# Altium integrated library Altium_WE-PD2A+(rev22c).IntLib: 94 symbols (part 2 of 2)
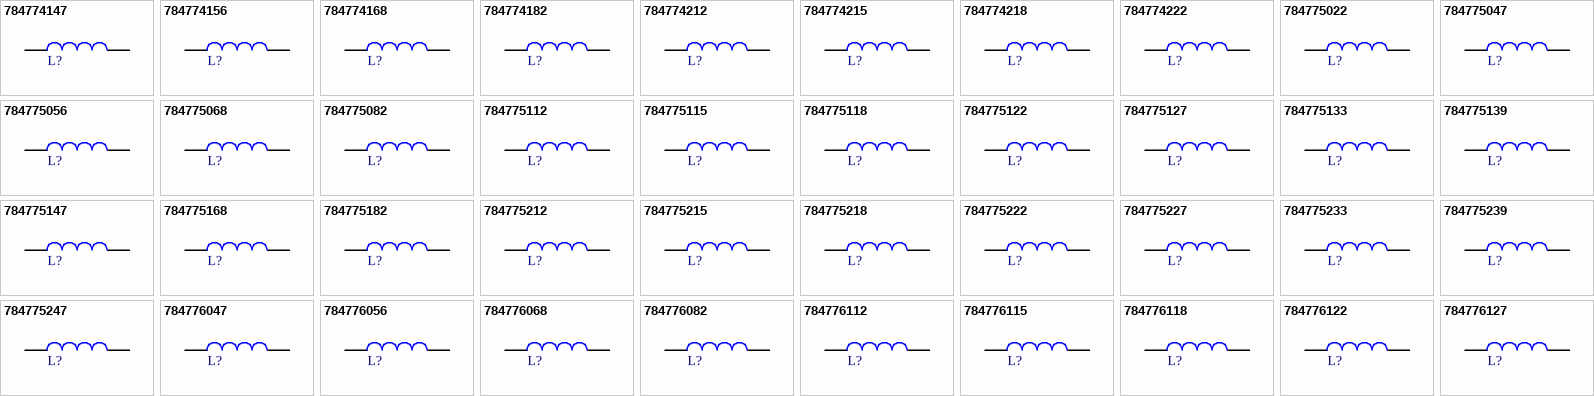
[diagram p3: symbols 784774147 to 784776127]

## 784775115
designator L?, comment 15µH  (value not drawn)
WE-PD2A SMT Power Inductor, size 7850, 15µH, 1.93A, 0.09Ω; Manufacturer Part Number: 784775115; Manufacturer: Wurth Elektronik; Case/Size Code: 7850; DC Resistance: 0.044Ω; Rated Voltage: 80VDC; Saturation Current: 2.2A; Self Resonant Frequency: 18MHz; Category: Single Coil Power Inductors; Match Code: WE-PD2A; ComponentLink1Description: Website Link; ComponentLink1URL: https://www.we-online.com/redexpert/article/784775115?ad; ComponentLink2Description: Datasheet Link; ComponentLink2URL: https://www.we-online.com/redexpert/spec/784775115?ad; Mount: Surface Mount; Operating Temperature Max: 125°C; Operating Temperature Min: -40°C; Packaging: Tape and Reel; Length: 7.8mm; Width: 7mm; Height: 5mm; Automotive: Yes; DC Resistance Max: 0.09Ω; Inductance: 15µH; Rated Current: 1.93A
footprint WE-PD2A_7850
simulation model 7850_784775115_15u
pins: 1, 2

## 784775118
designator L?, comment 18µH  (value not drawn)
WE-PD2A SMT Power Inductor, size 7850, 18µH, 1.89A, 0.1Ω; Manufacturer Part Number: 784775118; Manufacturer: Wurth Elektronik; Case/Size Code: 7850; DC Resistance: 0.053Ω; Rated Voltage: 80VDC; Saturation Current: 2.14A; Self Resonant Frequency: 17MHz; Category: Single Coil Power Inductors; Match Code: WE-PD2A; ComponentLink1Description: Website Link; ComponentLink1URL: https://www.we-online.com/redexpert/article/784775118?ad; ComponentLink2Description: Datasheet Link; ComponentLink2URL: https://www.we-online.com/redexpert/spec/784775118?ad; Mount: Surface Mount; Operating Temperature Max: 125°C; Operating Temperature Min: -40°C; Packaging: Tape and Reel; Length: 7.8mm; Width: 7mm; Height: 5mm; Automotive: Yes; DC Resistance Max: 0.1Ω; Inductance: 18µH; Rated Current: 1.89A
footprint WE-PD2A_7850
simulation model 7850_784775118_18u
pins: 1, 2

## 784775122
designator L?, comment 22µH  (value not drawn)
WE-PD2A SMT Power Inductor, size 7850, 22µH, 1.76A, 0.11Ω; Manufacturer Part Number: 784775122; Manufacturer: Wurth Elektronik; Case/Size Code: 7850; DC Resistance: 0.065Ω; Rated Voltage: 80VDC; Saturation Current: 1.81A; Self Resonant Frequency: 15MHz; Category: Single Coil Power Inductors; Match Code: WE-PD2A; ComponentLink1Description: Website Link; ComponentLink1URL: https://www.we-online.com/redexpert/article/784775122?ad; ComponentLink2Description: Datasheet Link; ComponentLink2URL: https://www.we-online.com/redexpert/spec/784775122?ad; Mount: Surface Mount; Operating Temperature Max: 125°C; Operating Temperature Min: -40°C; Packaging: Tape and Reel; Length: 7.8mm; Width: 7mm; Height: 5mm; Automotive: Yes; DC Resistance Max: 0.11Ω; Inductance: 22µH; Rated Current: 1.76A
footprint WE-PD2A_7850
simulation model 7850_784775122_22u
pins: 1, 2

## 784775127
designator L?, comment 27µH  (value not drawn)
WE-PD2A SMT Power Inductor, size 7850, 27µH, 1.48A, 0.12Ω; Manufacturer Part Number: 784775127; Manufacturer: Wurth Elektronik; Case/Size Code: 7850; DC Resistance: 0.074Ω; Rated Voltage: 80VDC; Saturation Current: 1.62A; Self Resonant Frequency: 14MHz; Category: Single Coil Power Inductors; Match Code: WE-PD2A; ComponentLink1Description: Website Link; ComponentLink1URL: https://www.we-online.com/redexpert/article/784775127?ad; ComponentLink2Description: Datasheet Link; ComponentLink2URL: https://www.we-online.com/redexpert/spec/784775127?ad; Mount: Surface Mount; Operating Temperature Max: 125°C; Operating Temperature Min: -40°C; Packaging: Tape and Reel; Length: 7.8mm; Width: 7mm; Height: 5mm; Automotive: Yes; DC Resistance Max: 0.12Ω; Inductance: 27µH; Rated Current: 1.48A
footprint WE-PD2A_7850
simulation model 7850_784775127_27u
pins: 1, 2

## 784775133
designator L?, comment 33µH  (value not drawn)
WE-PD2A SMT Power Inductor, size 7850, 33µH, 1.35A, 0.13Ω; Manufacturer Part Number: 784775133; Manufacturer: Wurth Elektronik; Case/Size Code: 7850; DC Resistance: 0.089Ω; Rated Voltage: 80VDC; Saturation Current: 1.47A; Self Resonant Frequency: 13MHz; Category: Single Coil Power Inductors; Match Code: WE-PD2A; ComponentLink1Description: Website Link; ComponentLink1URL: https://www.we-online.com/redexpert/article/784775133?ad; ComponentLink2Description: Datasheet Link; ComponentLink2URL: https://www.we-online.com/redexpert/spec/784775133?ad; Mount: Surface Mount; Operating Temperature Max: 125°C; Operating Temperature Min: -40°C; Packaging: Tape and Reel; Length: 7.8mm; Width: 7mm; Height: 5mm; Automotive: Yes; DC Resistance Max: 0.13Ω; Inductance: 33µH; Rated Current: 1.35A
footprint WE-PD2A_7850
simulation model 7850_784775133_33u
pins: 1, 2

## 784775139
designator L?, comment 39µH  (value not drawn)
WE-PD2A SMT Power Inductor, size 7850, 39µH, 1.25A, 0.16Ω; Manufacturer Part Number: 784775139; Manufacturer: Wurth Elektronik; Case/Size Code: 7850; DC Resistance: 0.116Ω; Rated Voltage: 80VDC; Saturation Current: 1.33A; Self Resonant Frequency: 12MHz; Category: Single Coil Power Inductors; Match Code: WE-PD2A; ComponentLink1Description: Website Link; ComponentLink1URL: https://www.we-online.com/redexpert/article/784775139?ad; ComponentLink2Description: Datasheet Link; ComponentLink2URL: https://www.we-online.com/redexpert/spec/784775139?ad; Mount: Surface Mount; Operating Temperature Max: 125°C; Operating Temperature Min: -40°C; Packaging: Tape and Reel; Length: 7.8mm; Width: 7mm; Height: 5mm; Automotive: Yes; DC Resistance Max: 0.16Ω; Inductance: 39µH; Rated Current: 1.25A
footprint WE-PD2A_7850
simulation model 7850_784775139_39u
pins: 1, 2

## 784775147
designator L?, comment 47µH  (value not drawn)
WE-PD2A SMT Power Inductor, size 7850, 47µH, 1.17A, 0.18Ω; Manufacturer Part Number: 784775147; Manufacturer: Wurth Elektronik; Case/Size Code: 7850; DC Resistance: 0.134Ω; Rated Voltage: 80VDC; Saturation Current: 1.24A; Self Resonant Frequency: 10MHz; Category: Single Coil Power Inductors; Match Code: WE-PD2A; ComponentLink1Description: Website Link; ComponentLink1URL: https://www.we-online.com/redexpert/article/784775147?ad; ComponentLink2Description: Datasheet Link; ComponentLink2URL: https://www.we-online.com/redexpert/spec/784775147?ad; Mount: Surface Mount; Operating Temperature Max: 125°C; Operating Temperature Min: -40°C; Packaging: Tape and Reel; Length: 7.8mm; Width: 7mm; Height: 5mm; Automotive: Yes; DC Resistance Max: 0.18Ω; Inductance: 47µH; Rated Current: 1.17A
footprint WE-PD2A_7850
simulation model 7850_784775147_47u
pins: 1, 2

## 784775168
designator L?, comment 68µH  (value not drawn)
WE-PD2A SMT Power Inductor, size 7850, 68µH, 0.99A, 0.28Ω; Manufacturer Part Number: 784775168; Manufacturer: Wurth Elektronik; Case/Size Code: 7850; DC Resistance: 0.218Ω; Rated Voltage: 80VDC; Saturation Current: 1.05A; Self Resonant Frequency: 8MHz; Category: Single Coil Power Inductors; Match Code: WE-PD2A; ComponentLink1Description: Website Link; ComponentLink1URL: https://www.we-online.com/redexpert/article/784775168?ad; ComponentLink2Description: Datasheet Link; ComponentLink2URL: https://www.we-online.com/redexpert/spec/784775168?ad; Mount: Surface Mount; Operating Temperature Max: 125°C; Operating Temperature Min: -40°C; Packaging: Tape and Reel; Length: 7.8mm; Width: 7mm; Height: 5mm; Automotive: Yes; DC Resistance Max: 0.28Ω; Inductance: 68µH; Rated Current: 0.99A
footprint WE-PD2A_7850
simulation model 7850_784775168_68u
pins: 1, 2

## 784775182
designator L?, comment 82µH  (value not drawn)
WE-PD2A SMT Power Inductor, size 7850, 82µH, 0.9A, 0.37Ω; Manufacturer Part Number: 784775182; Manufacturer: Wurth Elektronik; Case/Size Code: 7850; DC Resistance: 0.248Ω; Rated Voltage: 80VDC; Saturation Current: 0.95A; Self Resonant Frequency: 7MHz; Category: Single Coil Power Inductors; Match Code: WE-PD2A; ComponentLink1Description: Website Link; ComponentLink1URL: https://www.we-online.com/redexpert/article/784775182?ad; ComponentLink2Description: Datasheet Link; ComponentLink2URL: https://www.we-online.com/redexpert/spec/784775182?ad; Mount: Surface Mount; Operating Temperature Max: 125°C; Operating Temperature Min: -40°C; Packaging: Tape and Reel; Length: 7.8mm; Width: 7mm; Height: 5mm; Automotive: Yes; DC Resistance Max: 0.37Ω; Inductance: 82µH; Rated Current: 0.9A
footprint WE-PD2A_7850
simulation model 7850_784775182_82u
pins: 1, 2

## 784775212
designator L?, comment 120µH  (value not drawn)
WE-PD2A SMT Power Inductor, size 7850, 120µH, 0.67A, 0.47Ω; Manufacturer Part Number: 784775212; Manufacturer: Wurth Elektronik; Case/Size Code: 7850; DC Resistance: 0.34Ω; Rated Voltage: 80VDC; Saturation Current: 0.81A; Self Resonant Frequency: 6MHz; Category: Single Coil Power Inductors; Match Code: WE-PD2A; ComponentLink1Description: Website Link; ComponentLink1URL: https://www.we-online.com/redexpert/article/784775212?ad; ComponentLink2Description: Datasheet Link; ComponentLink2URL: https://www.we-online.com/redexpert/spec/784775212?ad; Mount: Surface Mount; Operating Temperature Max: 125°C; Operating Temperature Min: -40°C; Packaging: Tape and Reel; Length: 7.8mm; Width: 7mm; Height: 5mm; Automotive: Yes; DC Resistance Max: 0.47Ω; Inductance: 120µH; Rated Current: 0.67A
footprint WE-PD2A_7850
simulation model 7850_784775212_120u
pins: 1, 2

## 784775215
designator L?, comment 150µH  (value not drawn)
WE-PD2A SMT Power Inductor, size 7850, 150µH, 0.6A, 0.64Ω; Manufacturer Part Number: 784775215; Manufacturer: Wurth Elektronik; Case/Size Code: 7850; DC Resistance: 0.467Ω; Rated Voltage: 80VDC; Saturation Current: 0.71A; Self Resonant Frequency: 6MHz; Category: Single Coil Power Inductors; Match Code: WE-PD2A; ComponentLink1Description: Website Link; ComponentLink1URL: https://www.we-online.com/redexpert/article/784775215?ad; ComponentLink2Description: Datasheet Link; ComponentLink2URL: https://www.we-online.com/redexpert/spec/784775215?ad; Mount: Surface Mount; Operating Temperature Max: 125°C; Operating Temperature Min: -40°C; Packaging: Tape and Reel; Length: 7.8mm; Width: 7mm; Height: 5mm; Automotive: Yes; DC Resistance Max: 0.64Ω; Inductance: 150µH; Rated Current: 0.6A
footprint WE-PD2A_7850
simulation model 7850_784775215_150u
pins: 1, 2

## 784775218
designator L?, comment 180µH  (value not drawn)
WE-PD2A SMT Power Inductor, size 7850, 180µH, 0.55A, 0.71Ω; Manufacturer Part Number: 784775218; Manufacturer: Wurth Elektronik; Case/Size Code: 7850; DC Resistance: 0.574Ω; Rated Voltage: 80VDC; Saturation Current: 0.57A; Self Resonant Frequency: 5MHz; Category: Single Coil Power Inductors; Match Code: WE-PD2A; ComponentLink1Description: Website Link; ComponentLink1URL: https://www.we-online.com/redexpert/article/784775218?ad; ComponentLink2Description: Datasheet Link; ComponentLink2URL: https://www.we-online.com/redexpert/spec/784775218?ad; Mount: Surface Mount; Operating Temperature Max: 125°C; Operating Temperature Min: -40°C; Packaging: Tape and Reel; Length: 7.8mm; Width: 7mm; Height: 5mm; Automotive: Yes; DC Resistance Max: 0.71Ω; Inductance: 180µH; Rated Current: 0.55A
footprint WE-PD2A_7850
simulation model 7850_784775218_180u
pins: 1, 2

## 784775222
designator L?, comment 220µH  (value not drawn)
WE-PD2A SMT Power Inductor, size 7850, 220µH, 0.51A, 0.96Ω; Manufacturer Part Number: 784775222; Manufacturer: Wurth Elektronik; Case/Size Code: 7850; DC Resistance: 0.614Ω; Rated Voltage: 80VDC; Saturation Current: 0.56A; Self Resonant Frequency: 5MHz; Category: Single Coil Power Inductors; Match Code: WE-PD2A; ComponentLink1Description: Website Link; ComponentLink1URL: https://www.we-online.com/redexpert/article/784775222?ad; ComponentLink2Description: Datasheet Link; ComponentLink2URL: https://www.we-online.com/redexpert/spec/784775222?ad; Mount: Surface Mount; Operating Temperature Max: 125°C; Operating Temperature Min: -40°C; Packaging: Tape and Reel; Length: 7.8mm; Width: 7mm; Height: 5mm; Automotive: Yes; DC Resistance Max: 0.96Ω; Inductance: 220µH; Rated Current: 0.51A
footprint WE-PD2A_7850
simulation model 7850_784775222_220u
pins: 1, 2

## 784775227
designator L?, comment 270µH  (value not drawn)
WE-PD2A SMT Power Inductor, size 7850, 270µH, 0.47A, 1.11Ω; Manufacturer Part Number: 784775227; Manufacturer: Wurth Elektronik; Case/Size Code: 7850; DC Resistance: 0.699Ω; Rated Voltage: 80VDC; Saturation Current: 0.51A; Self Resonant Frequency: 4MHz; Category: Single Coil Power Inductors; Match Code: WE-PD2A; ComponentLink1Description: Website Link; ComponentLink1URL: https://www.we-online.com/redexpert/article/784775227?ad; ComponentLink2Description: Datasheet Link; ComponentLink2URL: https://www.we-online.com/redexpert/spec/784775227?ad; Mount: Surface Mount; Operating Temperature Max: 125°C; Operating Temperature Min: -40°C; Packaging: Tape and Reel; Length: 7.8mm; Width: 7mm; Height: 5mm; Automotive: Yes; DC Resistance Max: 1.11Ω; Inductance: 270µH; Rated Current: 0.47A
footprint WE-PD2A_7850
simulation model 7850_784775227_270u
pins: 1, 2

## 784775233
designator L?, comment 330µH  (value not drawn)
WE-PD2A SMT Power Inductor, size 7850, 330µH, 0.43A, 1.26Ω; Manufacturer Part Number: 784775233; Manufacturer: Wurth Elektronik; Case/Size Code: 7850; DC Resistance: 0.98Ω; Rated Voltage: 80VDC; Saturation Current: 0.48A; Self Resonant Frequency: 4MHz; Category: Single Coil Power Inductors; Match Code: WE-PD2A; ComponentLink1Description: Website Link; ComponentLink1URL: https://www.we-online.com/redexpert/article/784775233?ad; ComponentLink2Description: Datasheet Link; ComponentLink2URL: https://www.we-online.com/redexpert/spec/784775233?ad; Mount: Surface Mount; Operating Temperature Max: 125°C; Operating Temperature Min: -40°C; Packaging: Tape and Reel; Length: 7.8mm; Width: 7mm; Height: 5mm; Automotive: Yes; DC Resistance Max: 1.26Ω; Inductance: 330µH; Rated Current: 0.43A
footprint WE-PD2A_7850
simulation model 7850_784775233_330u
pins: 1, 2

## 784775239
designator L?, comment 390µH  (value not drawn)
WE-PD2A SMT Power Inductor, size 7850, 390µH, 0.38A, 1.77Ω; Manufacturer Part Number: 784775239; Manufacturer: Wurth Elektronik; Case/Size Code: 7850; DC Resistance: 1.151Ω; Rated Voltage: 80VDC; Saturation Current: 0.43A; Self Resonant Frequency: 3MHz; Category: Single Coil Power Inductors; Match Code: WE-PD2A; ComponentLink1Description: Website Link; ComponentLink1URL: https://www.we-online.com/redexpert/article/784775239?ad; ComponentLink2Description: Datasheet Link; ComponentLink2URL: https://www.we-online.com/redexpert/spec/784775239?ad; Mount: Surface Mount; Operating Temperature Max: 125°C; Operating Temperature Min: -40°C; Packaging: Tape and Reel; Length: 7.8mm; Width: 7mm; Height: 5mm; Automotive: Yes; DC Resistance Max: 1.77Ω; Inductance: 390µH; Rated Current: 0.38A
footprint WE-PD2A_7850
simulation model 7850_784775239_390u
pins: 1, 2

## 784775247
designator L?, comment 470µH  (value not drawn)
WE-PD2A SMT Power Inductor, size 7850, 470µH, 0.36A, 1.96Ω; Manufacturer Part Number: 784775247; Manufacturer: Wurth Elektronik; Case/Size Code: 7850; DC Resistance: 1.37Ω; Rated Voltage: 80VDC; Saturation Current: 0.38A; Self Resonant Frequency: 3MHz; Category: Single Coil Power Inductors; Match Code: WE-PD2A; ComponentLink1Description: Website Link; ComponentLink1URL: https://www.we-online.com/redexpert/article/784775247?ad; ComponentLink2Description: Datasheet Link; ComponentLink2URL: https://www.we-online.com/redexpert/spec/784775247?ad; Mount: Surface Mount; Operating Temperature Max: 125°C; Operating Temperature Min: -40°C; Packaging: Tape and Reel; Length: 7.8mm; Width: 7mm; Height: 5mm; Automotive: Yes; DC Resistance Max: 1.96Ω; Inductance: 470µH; Rated Current: 0.36A
footprint WE-PD2A_7850
simulation model 7850_784775247_470u
pins: 1, 2

## 784776047
designator L?, comment 4.7µH  (value not drawn)
WE-PD2A SMT Power Inductor, size 1054, 4.7µH, 5A, 0.014Ω; Manufacturer Part Number: 784776047; Manufacturer: Wurth Elektronik; Case/Size Code: 1054; DC Resistance: 0.012Ω; Rated Voltage: 80VDC; Saturation Current: 6A; Self Resonant Frequency: 46.14MHz; Category: Single Coil Power Inductors; Match Code: WE-PD2A; ComponentLink1Description: Website Link; ComponentLink1URL: https://www.we-online.com/redexpert/article/784776047?ad; ComponentLink2Description: Datasheet Link; ComponentLink2URL: https://www.we-online.com/redexpert/spec/784776047?ad; Mount: Surface Mount; Operating Temperature Max: 125°C; Operating Temperature Min: -40°C; Packaging: Tape and Reel; Length: 10mm; Width: 9mm; Height: 5.4mm; Automotive: Yes; DC Resistance Max: 0.014Ω; Inductance: 4.7µH; Rated Current: 5A
footprint WE-PD2A_1054
simulation model 1054_784776047_4.7u
pins: 1, 2

## 784776056
designator L?, comment 5.6µH  (value not drawn)
WE-PD2A SMT Power Inductor, size 1054, 5.6µH, 4.8A, 0.018Ω; Manufacturer Part Number: 784776056; Manufacturer: Wurth Elektronik; Case/Size Code: 1054; DC Resistance: 0.015Ω; Rated Voltage: 80VDC; Saturation Current: 5.5A; Self Resonant Frequency: 42.82MHz; Category: Single Coil Power Inductors; Match Code: WE-PD2A; ComponentLink1Description: Website Link; ComponentLink1URL: https://www.we-online.com/redexpert/article/784776056?ad; ComponentLink2Description: Datasheet Link; ComponentLink2URL: https://www.we-online.com/redexpert/spec/784776056?ad; Mount: Surface Mount; Operating Temperature Max: 125°C; Operating Temperature Min: -40°C; Packaging: Tape and Reel; Length: 10mm; Width: 9mm; Height: 5.4mm; Automotive: Yes; DC Resistance Max: 0.018Ω; Inductance: 5.6µH; Rated Current: 4.8A
footprint WE-PD2A_1054
simulation model 1054_784776056_5.6u
pins: 1, 2

## 784776068
designator L?, comment 6.8µH  (value not drawn)
WE-PD2A SMT Power Inductor, size 1054, 6.8µH, 4.4A, 0.019Ω; Manufacturer Part Number: 784776068; Manufacturer: Wurth Elektronik; Case/Size Code: 1054; DC Resistance: 0.016Ω; Rated Voltage: 80VDC; Saturation Current: 5A; Self Resonant Frequency: 30.46MHz; Category: Single Coil Power Inductors; Match Code: WE-PD2A; ComponentLink1Description: Website Link; ComponentLink1URL: https://www.we-online.com/redexpert/article/784776068?ad; ComponentLink2Description: Datasheet Link; ComponentLink2URL: https://www.we-online.com/redexpert/spec/784776068?ad; Mount: Surface Mount; Operating Temperature Max: 125°C; Operating Temperature Min: -40°C; Packaging: Tape and Reel; Length: 10mm; Width: 9mm; Height: 5.4mm; Automotive: Yes; DC Resistance Max: 0.019Ω; Inductance: 6.8µH; Rated Current: 4.4A
footprint WE-PD2A_1054
simulation model 1054_784776068_6.8u
pins: 1, 2

## 784776082
designator L?, comment 8.2µH  (value not drawn)
WE-PD2A SMT Power Inductor, size 1054, 8.2µH, 4.2A, 0.024Ω; Manufacturer Part Number: 784776082; Manufacturer: Wurth Elektronik; Case/Size Code: 1054; DC Resistance: 0.02Ω; Rated Voltage: 80VDC; Saturation Current: 4.25A; Self Resonant Frequency: 27.44MHz; Category: Single Coil Power Inductors; Match Code: WE-PD2A; ComponentLink1Description: Website Link; ComponentLink1URL: https://www.we-online.com/redexpert/article/784776082?ad; ComponentLink2Description: Datasheet Link; ComponentLink2URL: https://www.we-online.com/redexpert/spec/784776082?ad; Mount: Surface Mount; Operating Temperature Max: 125°C; Operating Temperature Min: -40°C; Packaging: Tape and Reel; Length: 10mm; Width: 9mm; Height: 5.4mm; Automotive: Yes; DC Resistance Max: 0.024Ω; Inductance: 8.2µH; Rated Current: 4.2A
footprint WE-PD2A_1054
simulation model 1054_784776082_8.2u
pins: 1, 2

## 784776112
designator L?, comment 12µH  (value not drawn)
WE-PD2A SMT Power Inductor, size 1054, 12µH, 2.72A, 0.07Ω; Manufacturer Part Number: 784776112; Manufacturer: Wurth Elektronik; Case/Size Code: 1054; DC Resistance: 0.033Ω; Rated Voltage: 80VDC; Saturation Current: 3.15A; Self Resonant Frequency: 26.1MHz; Category: Single Coil Power Inductors; Match Code: WE-PD2A; ComponentLink1Description: Website Link; ComponentLink1URL: https://www.we-online.com/redexpert/article/784776112?ad; ComponentLink2Description: Datasheet Link; ComponentLink2URL: https://www.we-online.com/redexpert/spec/784776112?ad; Mount: Surface Mount; Operating Temperature Max: 125°C; Operating Temperature Min: -40°C; Packaging: Tape and Reel; Length: 10mm; Width: 9mm; Height: 5.4mm; Automotive: Yes; DC Resistance Max: 0.07Ω; Inductance: 12µH; Rated Current: 2.72A
footprint WE-PD2A_1054
simulation model 1054_784776112_12u
pins: 1, 2

## 784776115
designator L?, comment 15µH  (value not drawn)
WE-PD2A SMT Power Inductor, size 1054, 15µH, 2.47A, 0.08Ω; Manufacturer Part Number: 784776115; Manufacturer: Wurth Elektronik; Case/Size Code: 1054; DC Resistance: 0.034Ω; Rated Voltage: 80VDC; Saturation Current: 2.88A; Self Resonant Frequency: 19.68MHz; Category: Single Coil Power Inductors; Match Code: WE-PD2A; ComponentLink1Description: Website Link; ComponentLink1URL: https://www.we-online.com/redexpert/article/784776115?ad; ComponentLink2Description: Datasheet Link; ComponentLink2URL: https://www.we-online.com/redexpert/spec/784776115?ad; Mount: Surface Mount; Operating Temperature Max: 125°C; Operating Temperature Min: -40°C; Packaging: Tape and Reel; Length: 10mm; Width: 9mm; Height: 5.4mm; Automotive: Yes; DC Resistance Max: 0.08Ω; Inductance: 15µH; Rated Current: 2.47A
footprint WE-PD2A_1054
simulation model 1054_784776115_15u
pins: 1, 2

## 784776118
designator L?, comment 18µH  (value not drawn)
WE-PD2A SMT Power Inductor, size 1054, 18µH, 2.36A, 0.09Ω; Manufacturer Part Number: 784776118; Manufacturer: Wurth Elektronik; Case/Size Code: 1054; DC Resistance: 0.043Ω; Rated Voltage: 80VDC; Saturation Current: 2.43A; Self Resonant Frequency: 16.92MHz; Category: Single Coil Power Inductors; Match Code: WE-PD2A; ComponentLink1Description: Website Link; ComponentLink1URL: https://www.we-online.com/redexpert/article/784776118?ad; ComponentLink2Description: Datasheet Link; ComponentLink2URL: https://www.we-online.com/redexpert/spec/784776118?ad; Mount: Surface Mount; Operating Temperature Max: 125°C; Operating Temperature Min: -40°C; Packaging: Tape and Reel; Length: 10mm; Width: 9mm; Height: 5.4mm; Automotive: Yes; DC Resistance Max: 0.09Ω; Inductance: 18µH; Rated Current: 2.36A
footprint WE-PD2A_1054
simulation model 1054_784776118_18u
pins: 1, 2

## 784776122
designator L?, comment 22µH  (value not drawn)
WE-PD2A SMT Power Inductor, size 1054, 22µH, 2.04A, 0.1Ω; Manufacturer Part Number: 784776122; Manufacturer: Wurth Elektronik; Case/Size Code: 1054; DC Resistance: 0.051Ω; Rated Voltage: 80VDC; Saturation Current: 2.07A; Self Resonant Frequency: 15.88MHz; Category: Single Coil Power Inductors; Match Code: WE-PD2A; ComponentLink1Description: Website Link; ComponentLink1URL: https://www.we-online.com/redexpert/article/784776122?ad; ComponentLink2Description: Datasheet Link; ComponentLink2URL: https://www.we-online.com/redexpert/spec/784776122?ad; Mount: Surface Mount; Operating Temperature Max: 125°C; Operating Temperature Min: -40°C; Packaging: Tape and Reel; Length: 10mm; Width: 9mm; Height: 5.4mm; Automotive: Yes; DC Resistance Max: 0.1Ω; Inductance: 22µH; Rated Current: 2.04A
footprint WE-PD2A_1054
simulation model 1054_784776122_22u
pins: 1, 2

## 784776127
designator L?, comment 27µH  (value not drawn)
WE-PD2A SMT Power Inductor, size 1054, 27µH, 1.95A, 0.11Ω; Manufacturer Part Number: 784776127; Manufacturer: Wurth Elektronik; Case/Size Code: 1054; DC Resistance: 0.063Ω; Rated Voltage: 80VDC; Saturation Current: 1.98A; Self Resonant Frequency: 14.1MHz; Category: Single Coil Power Inductors; Match Code: WE-PD2A; ComponentLink1Description: Website Link; ComponentLink1URL: https://www.we-online.com/redexpert/article/784776127?ad; ComponentLink2Description: Datasheet Link; ComponentLink2URL: https://www.we-online.com/redexpert/spec/784776127?ad; Mount: Surface Mount; Operating Temperature Max: 125°C; Operating Temperature Min: -40°C; Packaging: Tape and Reel; Length: 10mm; Width: 9mm; Height: 5.4mm; Automotive: Yes; DC Resistance Max: 0.11Ω; Inductance: 27µH; Rated Current: 1.95A
footprint WE-PD2A_1054
simulation model 1054_784776127_27u
pins: 1, 2

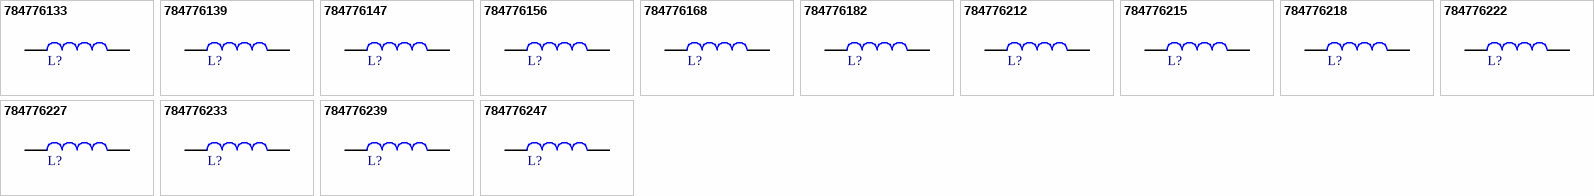
[diagram p2: symbols 784776133 to 784776247]

## 784776133
designator L?, comment 33µH  (value not drawn)
WE-PD2A SMT Power Inductor, size 1054, 33µH, 1.78A, 0.12Ω; Manufacturer Part Number: 784776133; Manufacturer: Wurth Elektronik; Case/Size Code: 1054; DC Resistance: 0.083Ω; Rated Voltage: 80VDC; Saturation Current: 1.89A; Self Resonant Frequency: 12.13MHz; Category: Single Coil Power Inductors; Match Code: WE-PD2A; ComponentLink1Description: Website Link; ComponentLink1URL: https://www.we-online.com/redexpert/article/784776133?ad; ComponentLink2Description: Datasheet Link; ComponentLink2URL: https://www.we-online.com/redexpert/spec/784776133?ad; Mount: Surface Mount; Operating Temperature Max: 125°C; Operating Temperature Min: -40°C; Packaging: Tape and Reel; Length: 10mm; Width: 9mm; Height: 5.4mm; Automotive: Yes; DC Resistance Max: 0.12Ω; Inductance: 33µH; Rated Current: 1.78A
footprint WE-PD2A_1054
simulation model 1054_784776133_33u
pins: 1, 2

## 784776139
designator L?, comment 39µH  (value not drawn)
WE-PD2A SMT Power Inductor, size 1054, 39µH, 1.62A, 0.14Ω; Manufacturer Part Number: 784776139; Manufacturer: Wurth Elektronik; Case/Size Code: 1054; DC Resistance: 0.098Ω; Rated Voltage: 80VDC; Saturation Current: 1.8A; Self Resonant Frequency: 11.08MHz; Category: Single Coil Power Inductors; Match Code: WE-PD2A; ComponentLink1Description: Website Link; ComponentLink1URL: https://www.we-online.com/redexpert/article/784776139?ad; ComponentLink2Description: Datasheet Link; ComponentLink2URL: https://www.we-online.com/redexpert/spec/784776139?ad; Mount: Surface Mount; Operating Temperature Max: 125°C; Operating Temperature Min: -40°C; Packaging: Tape and Reel; Length: 10mm; Width: 9mm; Height: 5.4mm; Automotive: Yes; DC Resistance Max: 0.14Ω; Inductance: 39µH; Rated Current: 1.62A
footprint WE-PD2A_1054
simulation model 1054_784776139_39u
pins: 1, 2

## 784776147
designator L?, comment 47µH  (value not drawn)
WE-PD2A SMT Power Inductor, size 1054, 47µH, 1.45A, 0.17Ω; Manufacturer Part Number: 784776147; Manufacturer: Wurth Elektronik; Case/Size Code: 1054; DC Resistance: 0.095Ω; Rated Voltage: 80VDC; Saturation Current: 1.62A; Self Resonant Frequency: 9.77MHz; Category: Single Coil Power Inductors; Match Code: WE-PD2A; ComponentLink1Description: Website Link; ComponentLink1URL: https://www.we-online.com/redexpert/article/784776147?ad; ComponentLink2Description: Datasheet Link; ComponentLink2URL: https://www.we-online.com/redexpert/spec/784776147?ad; Mount: Surface Mount; Operating Temperature Max: 125°C; Operating Temperature Min: -40°C; Packaging: Tape and Reel; Length: 10mm; Width: 9mm; Height: 5.4mm; Automotive: Yes; DC Resistance Max: 0.17Ω; Inductance: 47µH; Rated Current: 1.45A
footprint WE-PD2A_1054
simulation model 1054_784776147_47u
pins: 1, 2

## 784776156
designator L?, comment 56µH  (value not drawn)
WE-PD2A SMT Power Inductor, size 1054, 56µH, 1.36A, 0.19Ω; Manufacturer Part Number: 784776156; Manufacturer: Wurth Elektronik; Case/Size Code: 1054; DC Resistance: 0.112Ω; Rated Voltage: 80VDC; Saturation Current: 1.53A; Self Resonant Frequency: 9.17MHz; Category: Single Coil Power Inductors; Match Code: WE-PD2A; ComponentLink1Description: Website Link; ComponentLink1URL: https://www.we-online.com/redexpert/article/784776156?ad; ComponentLink2Description: Datasheet Link; ComponentLink2URL: https://www.we-online.com/redexpert/spec/784776156?ad; Mount: Surface Mount; Operating Temperature Max: 125°C; Operating Temperature Min: -40°C; Packaging: Tape and Reel; Length: 10mm; Width: 9mm; Height: 5.4mm; Automotive: Yes; DC Resistance Max: 0.19Ω; Inductance: 56µH; Rated Current: 1.36A
footprint WE-PD2A_1054
simulation model 1054_784776156_56u
pins: 1, 2

## 784776168
designator L?, comment 68µH  (value not drawn)
WE-PD2A SMT Power Inductor, size 1054, 68µH, 1.19A, 0.22Ω; Manufacturer Part Number: 784776168; Manufacturer: Wurth Elektronik; Case/Size Code: 1054; DC Resistance: 0.138Ω; Rated Voltage: 80VDC; Saturation Current: 1.49A; Self Resonant Frequency: 8.63MHz; Category: Single Coil Power Inductors; Match Code: WE-PD2A; ComponentLink1Description: Website Link; ComponentLink1URL: https://www.we-online.com/redexpert/article/784776168?ad; ComponentLink2Description: Datasheet Link; ComponentLink2URL: https://www.we-online.com/redexpert/spec/784776168?ad; Mount: Surface Mount; Operating Temperature Max: 125°C; Operating Temperature Min: -40°C; Packaging: Tape and Reel; Length: 10mm; Width: 9mm; Height: 5.4mm; Automotive: Yes; DC Resistance Max: 0.22Ω; Inductance: 68µH; Rated Current: 1.19A
footprint WE-PD2A_1054
simulation model 1054_784776168_68u
pins: 1, 2

## 784776182
designator L?, comment 82µH  (value not drawn)
WE-PD2A SMT Power Inductor, size 1054, 82µH, 1.11A, 0.25Ω; Manufacturer Part Number: 784776182; Manufacturer: Wurth Elektronik; Case/Size Code: 1054; DC Resistance: 0.15Ω; Rated Voltage: 80VDC; Saturation Current: 1.17A; Self Resonant Frequency: 7.09MHz; Category: Single Coil Power Inductors; Match Code: WE-PD2A; ComponentLink1Description: Website Link; ComponentLink1URL: https://www.we-online.com/redexpert/article/784776182?ad; ComponentLink2Description: Datasheet Link; ComponentLink2URL: https://www.we-online.com/redexpert/spec/784776182?ad; Mount: Surface Mount; Operating Temperature Max: 125°C; Operating Temperature Min: -40°C; Packaging: Tape and Reel; Length: 10mm; Width: 9mm; Height: 5.4mm; Automotive: Yes; DC Resistance Max: 0.25Ω; Inductance: 82µH; Rated Current: 1.11A
footprint WE-PD2A_1054
simulation model 1054_784776182_82u
pins: 1, 2

## 784776212
designator L?, comment 120µH  (value not drawn)
WE-PD2A SMT Power Inductor, size 1054, 120µH, 0.94A, 0.4Ω; Manufacturer Part Number: 784776212; Manufacturer: Wurth Elektronik; Case/Size Code: 1054; DC Resistance: 0.243Ω; Rated Voltage: 80VDC; Saturation Current: 0.99A; Self Resonant Frequency: 5.92MHz; Category: Single Coil Power Inductors; Match Code: WE-PD2A; ComponentLink1Description: Website Link; ComponentLink1URL: https://www.we-online.com/redexpert/article/784776212?ad; ComponentLink2Description: Datasheet Link; ComponentLink2URL: https://www.we-online.com/redexpert/spec/784776212?ad; Mount: Surface Mount; Operating Temperature Max: 125°C; Operating Temperature Min: -40°C; Packaging: Tape and Reel; Length: 10mm; Width: 9mm; Height: 5.4mm; Automotive: Yes; DC Resistance Max: 0.4Ω; Inductance: 120µH; Rated Current: 0.94A
footprint WE-PD2A_1054
simulation model 1054_784776212_120u
pins: 1, 2

## 784776215
designator L?, comment 150µH  (value not drawn)
WE-PD2A SMT Power Inductor, size 1054, 150µH, 0.81A, 0.47Ω; Manufacturer Part Number: 784776215; Manufacturer: Wurth Elektronik; Case/Size Code: 1054; DC Resistance: 0.3Ω; Rated Voltage: 80VDC; Saturation Current: 0.9A; Self Resonant Frequency: 5.52MHz; Category: Single Coil Power Inductors; Match Code: WE-PD2A; ComponentLink1Description: Website Link; ComponentLink1URL: https://www.we-online.com/redexpert/article/784776215?ad; ComponentLink2Description: Datasheet Link; ComponentLink2URL: https://www.we-online.com/redexpert/spec/784776215?ad; Mount: Surface Mount; Operating Temperature Max: 125°C; Operating Temperature Min: -40°C; Packaging: Tape and Reel; Length: 10mm; Width: 9mm; Height: 5.4mm; Automotive: Yes; DC Resistance Max: 0.47Ω; Inductance: 150µH; Rated Current: 0.81A
footprint WE-PD2A_1054
simulation model 1054_784776215_150u
pins: 1, 2

## 784776218
designator L?, comment 180µH  (value not drawn)
WE-PD2A SMT Power Inductor, size 1054, 180µH, 0.76A, 0.63Ω; Manufacturer Part Number: 784776218; Manufacturer: Wurth Elektronik; Case/Size Code: 1054; DC Resistance: 0.32Ω; Rated Voltage: 80VDC; Saturation Current: 0.78A; Self Resonant Frequency: 5.04MHz; Category: Single Coil Power Inductors; Match Code: WE-PD2A; ComponentLink1Description: Website Link; ComponentLink1URL: https://www.we-online.com/redexpert/article/784776218?ad; ComponentLink2Description: Datasheet Link; ComponentLink2URL: https://www.we-online.com/redexpert/spec/784776218?ad; Mount: Surface Mount; Operating Temperature Max: 125°C; Operating Temperature Min: -40°C; Packaging: Tape and Reel; Length: 10mm; Width: 9mm; Height: 5.4mm; Automotive: Yes; DC Resistance Max: 0.63Ω; Inductance: 180µH; Rated Current: 0.76A
footprint WE-PD2A_1054
simulation model 1054_784776218_180u
pins: 1, 2

## 784776222
designator L?, comment 220µH  (value not drawn)
WE-PD2A SMT Power Inductor, size 1054, 220µH, 0.67A, 0.73Ω; Manufacturer Part Number: 784776222; Manufacturer: Wurth Elektronik; Case/Size Code: 1054; DC Resistance: 0.451Ω; Rated Voltage: 80VDC; Saturation Current: 0.77A; Self Resonant Frequency: 4.55MHz; Category: Single Coil Power Inductors; Match Code: WE-PD2A; ComponentLink1Description: Website Link; ComponentLink1URL: https://www.we-online.com/redexpert/article/784776222?ad; ComponentLink2Description: Datasheet Link; ComponentLink2URL: https://www.we-online.com/redexpert/spec/784776222?ad; Mount: Surface Mount; Operating Temperature Max: 125°C; Operating Temperature Min: -40°C; Packaging: Tape and Reel; Length: 10mm; Width: 9mm; Height: 5.4mm; Automotive: Yes; DC Resistance Max: 0.73Ω; Inductance: 220µH; Rated Current: 0.67A
footprint WE-PD2A_1054
simulation model 1054_784776222_220u
pins: 1, 2

## 784776227
designator L?, comment 270µH  (value not drawn)
WE-PD2A SMT Power Inductor, size 1054, 270µH, 0.62A, 0.97Ω; Manufacturer Part Number: 784776227; Manufacturer: Wurth Elektronik; Case/Size Code: 1054; DC Resistance: 0.5Ω; Rated Voltage: 80VDC; Saturation Current: 0.68A; Self Resonant Frequency: 3.87MHz; Category: Single Coil Power Inductors; Match Code: WE-PD2A; ComponentLink1Description: Website Link; ComponentLink1URL: https://www.we-online.com/redexpert/article/784776227?ad; ComponentLink2Description: Datasheet Link; ComponentLink2URL: https://www.we-online.com/redexpert/spec/784776227?ad; Mount: Surface Mount; Operating Temperature Max: 125°C; Operating Temperature Min: -40°C; Packaging: Tape and Reel; Length: 10mm; Width: 9mm; Height: 5.4mm; Automotive: Yes; DC Resistance Max: 0.97Ω; Inductance: 270µH; Rated Current: 0.62A
footprint WE-PD2A_1054
simulation model 1054_784776227_270u
pins: 1, 2

## 784776233
designator L?, comment 330µH  (value not drawn)
WE-PD2A SMT Power Inductor, size 1054, 330µH, 0.52A, 1.15Ω; Manufacturer Part Number: 784776233; Manufacturer: Wurth Elektronik; Case/Size Code: 1054; DC Resistance: 0.75Ω; Rated Voltage: 80VDC; Saturation Current: 0.59A; Self Resonant Frequency: 3.57MHz; Category: Single Coil Power Inductors; Match Code: WE-PD2A; ComponentLink1Description: Website Link; ComponentLink1URL: https://www.we-online.com/redexpert/article/784776233?ad; ComponentLink2Description: Datasheet Link; ComponentLink2URL: https://www.we-online.com/redexpert/spec/784776233?ad; Mount: Surface Mount; Operating Temperature Max: 125°C; Operating Temperature Min: -40°C; Packaging: Tape and Reel; Length: 10mm; Width: 9mm; Height: 5.4mm; Automotive: Yes; DC Resistance Max: 1.15Ω; Inductance: 330µH; Rated Current: 0.52A
footprint WE-PD2A_1054
simulation model 1054_784776233_330u
pins: 1, 2

## 784776239
designator L?, comment 390µH  (value not drawn)
WE-PD2A SMT Power Inductor, size 1054, 390µH, 0.49A, 1.3Ω; Manufacturer Part Number: 784776239; Manufacturer: Wurth Elektronik; Case/Size Code: 1054; DC Resistance: 0.794Ω; Rated Voltage: 80VDC; Saturation Current: 0.54A; Self Resonant Frequency: 3.57MHz; Category: Single Coil Power Inductors; Match Code: WE-PD2A; ComponentLink1Description: Website Link; ComponentLink1URL: https://www.we-online.com/redexpert/article/784776239?ad; ComponentLink2Description: Datasheet Link; ComponentLink2URL: https://www.we-online.com/redexpert/spec/784776239?ad; Mount: Surface Mount; Operating Temperature Max: 125°C; Operating Temperature Min: -40°C; Packaging: Tape and Reel; Length: 10mm; Width: 9mm; Height: 5.4mm; Automotive: Yes; DC Resistance Max: 1.3Ω; Inductance: 390µH; Rated Current: 0.49A
footprint WE-PD2A_1054
simulation model 1054_784776239_390u
pins: 1, 2

## 784776247
designator L?, comment 470µH  (value not drawn)
WE-PD2A SMT Power Inductor, size 1054, 470µH, 0.44A, 1.48Ω; Manufacturer Part Number: 784776247; Manufacturer: Wurth Elektronik; Case/Size Code: 1054; DC Resistance: 0.969Ω; Rated Voltage: 80VDC; Saturation Current: 0.5A; Self Resonant Frequency: 2.94MHz; Category: Single Coil Power Inductors; Match Code: WE-PD2A; ComponentLink1Description: Website Link; ComponentLink1URL: https://www.we-online.com/redexpert/article/784776247?ad; ComponentLink2Description: Datasheet Link; ComponentLink2URL: https://www.we-online.com/redexpert/spec/784776247?ad; Mount: Surface Mount; Operating Temperature Max: 125°C; Operating Temperature Min: -40°C; Packaging: Tape and Reel; Length: 10mm; Width: 9mm; Height: 5.4mm; Automotive: Yes; DC Resistance Max: 1.48Ω; Inductance: 470µH; Rated Current: 0.44A
footprint WE-PD2A_1054
simulation model 1054_784776247_470u
pins: 1, 2